# EAGLE library part ESPLORA3 (library ESPLORA3)
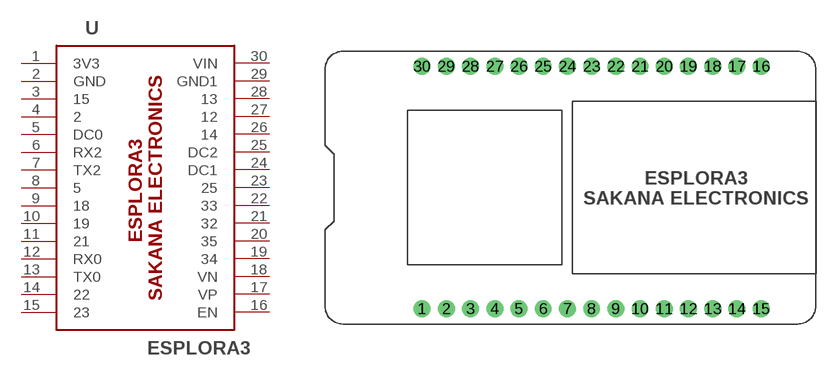
[diagram p0: symbol with the pads of ESPLORA3; footprint ESPLORA3]

Designator prefix -

## ESPLORA3  [ESPLORA3]
1  3V3
2  GND
3  15
4  2
5  DC0
6  RX2
7  TX2
8  5
9  18
10  19
11  21
12  RX0
13  TX0
14  22
15  23
16  EN
17  VP
18  VN
19  34
20  35
21  32
22  33
23  25
24  DC1
25  DC2
26  14
27  12
28  13
29  GND1
30  VIN

## Footprint ESPLORA3 (pad centres in mm)
drill 1.016 pad 1.778: 1 -16.51,-12.7; 2 -13.97,-12.7; 3 -11.43,-12.7; 4 -8.89,-12.7; 5 -6.35,-12.7; 6 -3.81,-12.7; 7 -1.27,-12.7; 8 1.27,-12.7; 9 3.81,-12.7; 10 6.35,-12.7; 11 8.89,-12.7; 12 11.43,-12.7; 13 13.97,-12.7; 14 16.51,-12.7; 15 19.05,-12.7; 16 19.05,12.7; 17 16.51,12.7; 18 13.97,12.7; 19 11.43,12.7; 20 8.89,12.7; 21 6.35,12.7; 22 3.81,12.7; 23 1.27,12.7; 24 -1.27,12.7; 25 -3.81,12.7; 26 -6.35,12.7; 27 -8.89,12.7; 28 -11.43,12.7; 29 -13.97,12.7; 30 -16.51,12.7